# EAGLE library part XH_8POS_DEV (library blizzard_common_1)
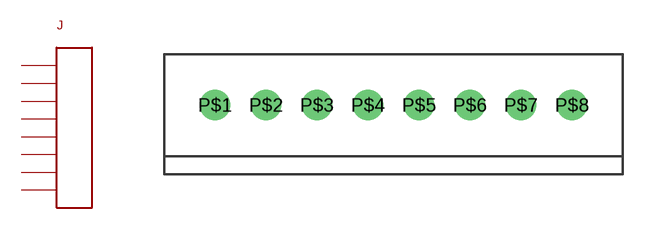
[diagram p0: symbol with the pads of XH_8POS_PKG; footprint XH_8POS_PKG]

Designator prefix J

## XH_8POS_DEV  [XH_8POS_PKG]
P$1  P$1
P$2  P$2
P$3  P$3
P$4  P$4
P$5  P$5
P$6  P$6
P$7  P$7
P$8  P$8

## Footprint XH_8POS_PKG (pad centres in mm)
drill 1: P$1 -7.493,0; P$2 -4.993,0; P$3 -2.493,0; P$4 0.007,0; P$5 2.507,0; P$6 5.007,0; P$7 7.507,0; P$8 10.007,0